# Altium schematic symbol library R-CRCW1206220RJNEB.Schlib: 1 symbol
Pins are listed as number, name and electrical type; pins without a type are passive.

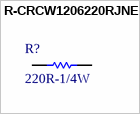
[diagram p0: symbol R-CRCW1206220RJNEB]

## R-CRCW1206220RJNEB
designator R?, comment 220R-1/4W
TThick Film Resistors - SMD 1/4watt 220ohms 5%
pins: 1, 2